# EAGLE library part DRV8848 (library EE445L)
DMOS FULL-BRIDGE MOTOR DRIVERS
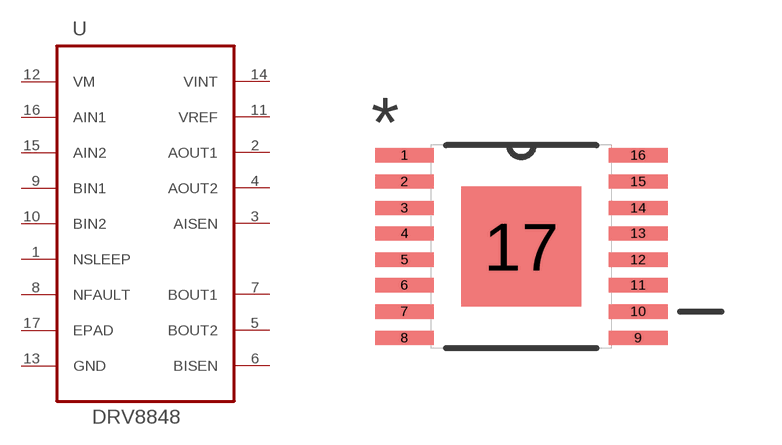
[diagram p38: symbol with the pads of SOP65P640X120-17N; footprint SOP65P640X120-17N]

Designator prefix U

## DRV8848 (MPN: DRV8848; PACKAGE: TSSOP-16; SUPPLIER: Texas Instruments)  [SOP65P640X120-17N]
1  NSLEEP  in
2  AOUT1  out
3  AISEN  pas
4  AOUT2  out
5  BOUT2  out
6  BISEN  pas
7  BOUT1  out
8  NFAULT  oc
9  BIN1  in
10  BIN2  in
11  VREF  pas
12  VM  pwr
13  GND  pas
14  VINT  pas
15  AIN2  in
16  AIN1  in
17  EPAD  pas

## Footprint SOP65P640X120-17N (pad centres in mm)
smd 1.473 x 0.356: 1 -2.921,2.286; 2 -2.921,1.626; 3 -2.921,0.965; 4 -2.921,0.33; 5 -2.921,-0.33; 6 -2.921,-0.965; 7 -2.921,-1.626; 8 -2.921,-2.286; 9 2.921,-2.286; 10 2.921,-1.626; 11 2.921,-0.965; 12 2.921,-0.33; 13 2.921,0.33; 14 2.921,0.965; 15 2.921,1.626; 16 2.921,2.286
smd 2.997 x 2.997: 17 0,0